# EAGLE library part RV-4162-C7 (library SparkFun-Clocks)
[RV-4162-C7] - [Real Time Clock Module with I2C Bus] Specifications: Pin count: [8] Pin pitch: [.9mm] Area: [3.2mm x 1.5mm] Datasheet referenced for footprint <http://www.microcrystal.com/images/_Product-Documentation/02_Oscillator_&_RTC_Modules/01_Datasheet/RV-4162-C7.pdf> Example device(s): [EXAMPLE DEVICE 1] [EXAMPLE DEVICE 2]
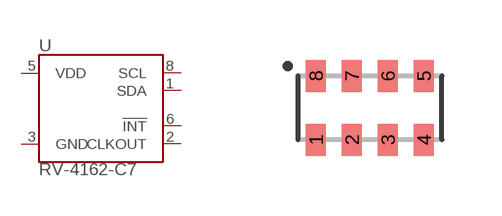
[diagram p1: symbol with the pads of RV-4162-C7-SMT; footprint RV-4162-C7-SMT]

Designator prefix U

## RV-4162-C7 (PROD_ID: IC-13900)  [RV-4162-C7-SMT]
1  SDA
2  CLKOUT
3  GND
5  VDD
6  !INT
8  SCL

## Footprint RV-4162-C7-SMT (pad centres in mm)
smd 0.5 x 0.8: 1 -1.35,-0.8; 2 -0.45,-0.8; 3 0.45,-0.8; 4 1.35,-0.8; 5 1.35,0.8; 6 0.45,0.8; 7 -0.45,0.8; 8 -1.35,0.8